# Altium footprint library alarm_pcb_lib.PcbLib: 7 footprints
Each footprint in its own frame and in the unit in brackets; x right, y up, seen from the top. Pads: shape width x height; smd on the part's side, far side on the other; paste and mask are expansions set on the pad; w line width, h text height; cw(c..) or ccw(c..) is an arc to the next point about the centre after c.
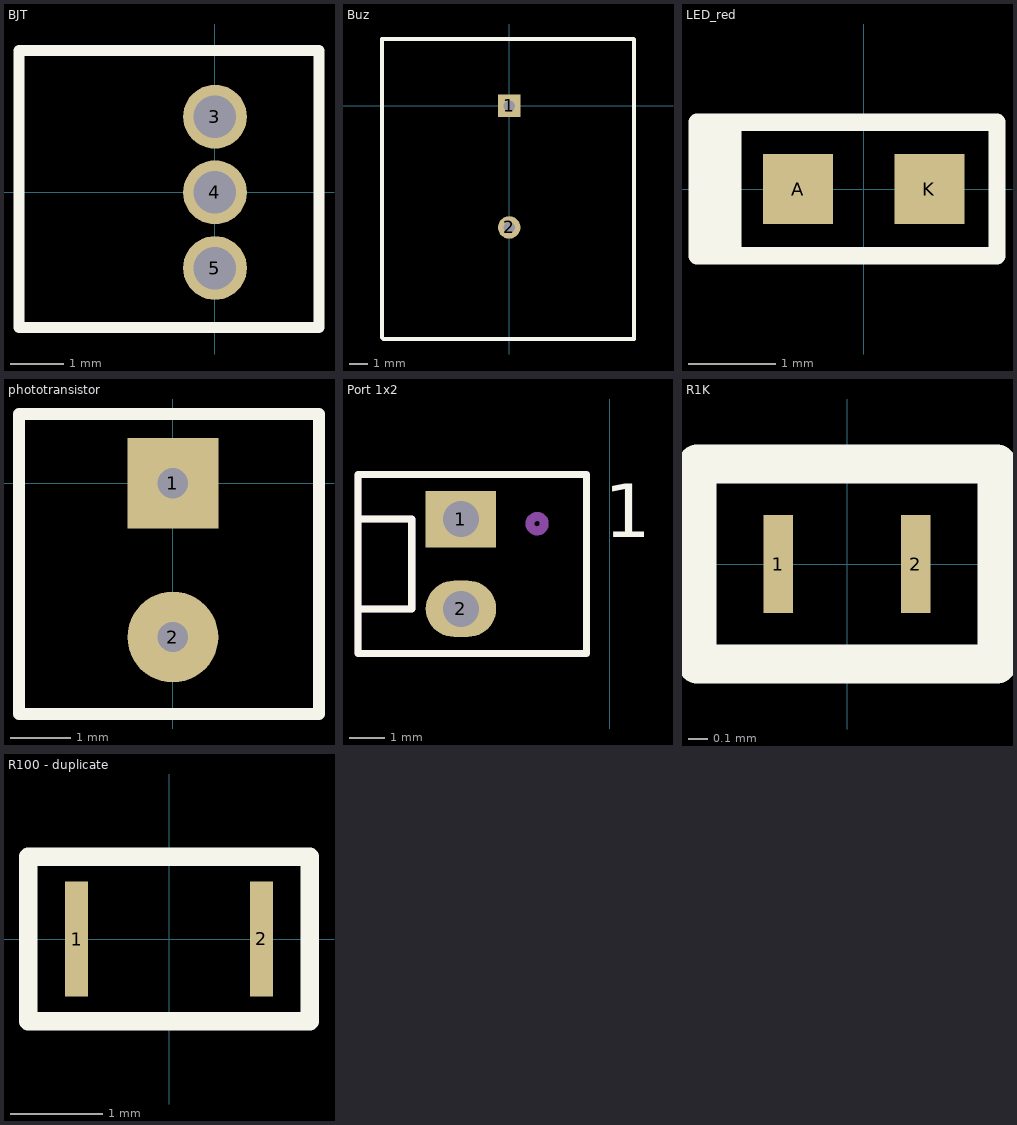
[diagram p0: the footprints below, top view; thin cyan lines are the x and y axes]

## BJT [mm]
pads (3):
  round 1.2 hole 0.8: 3(0,1.422) 4(0,0) 5(0,-1.422)
Top Overlay:
  lines w0.2: -3.683,-2.54 1.956,-2.54 1.956,2.667 -3.429,2.667 -3.683,2.667 -3.683,-2.54
Bottom Solder:
3D body "User Library-BC557 Transistors PNP TO-92 3L (2,54mm).step": height 5.01, standoff -14.74, extent -3.371,-2.38 1.81,2.38

## Buz [mm]
pads (2):
  rect 1.2x1.2 hole 0.6: 1(0,0)
  round 1.2 hole 0.6: 2(0,-6.5)
Top Overlay:
  lines w0.2: -6.807,-12.394 -6.807,3.583 6.655,3.583 6.68,3.557 6.68,-12.47 -6.604,-12.47 -6.731,-12.47
3D body "buzzer.stp": height 8.56, standoff -4.29, extent -6.05,-12.026 5.948,2.724

## LED_red [mm]
pads (2):
  rect 0.8x0.8 smd: A(-0.75,0) K(0.75,0)
Top Overlay:
  rectangle: -1.905,-0.762 -1.397,0.762
  lines w0.2: -1.905,-0.762 -1.905,0.762 1.524,0.762 1.524,-0.762 -1.905,-0.762
3D body "User Library-LED_0603_R.STEP": height 0.6, standoff 0, extent -0.8,-0.4 0.8,0.4

## phototransistor [mm]
pads (2):
  rect 1.5x1.5 hole 0.5: 1(0,0)
  round 1.5 hole 0.5: 2(0,-2.54)
Top Overlay:
  lines w0.2: -2.54,-3.81 2.413,-3.81 2.413,1.143 -2.54,1.143 -2.54,-3.81
3D body "photo_trans.step": height 5.21, standoff -7.35, extent -1.9,-3.17 1.9,0.256

## Port 1x2 [mm]
pads (2):
  rect 2x1.6 hole 1.02: 1(-4.216,-6.147)
  oval 2x1.6 hole 1.02: 2(-4.216,-8.687)
Top Overlay:
  lines w0.2: -7.137,-8.687 -5.613,-8.687 -5.613,-6.147 -7.137,-6.147 ; -7.137,-9.957 -0.66,-9.957 -0.66,-4.877 -7.137,-4.877 -7.137,-9.957
  text "1" at -0.152,-6.655 h1.52
Mechanical 29 (Mech29):
  circle w0.254: c-2.057,-6.274 r0.203
  lines w0.2: -7.137,-8.687 -5.613,-8.687 -5.613,-6.147 -7.137,-6.147 ; -7.137,-9.957 -7.137,-4.877 -0.66,-4.877 -0.66,-9.957 -7.137,-9.957
3D body "022232021.stp": height 10.68, standoff -3.54, extent -7.061,-9.753 -0.711,-4.826

## R1K [mm]
pads (2):
  rect 0.15x0.5 smd: 1(-0.35,0) 2(0.35,0)
Top Overlay:
  lines w0.2: -0.762,-0.508 -0.762,0.508 0.762,0.508 0.762,-0.508 -0.762,-0.508
3D body "R1K_model.step": height 0.34, standoff -0.01, extent -0.5,-0.25 0.5,0.25

## R100 - duplicate [mm]
pads (2):
  rect 0.25x1.25 smd: 1(-1,0) 2(1,0)
Top Overlay:
  lines w0.2: -1.524,-0.889 -1.524,0.889 1.524,0.889 1.524,-0.889 -1.524,-0.889
3D body "R100_model.step": height 0.56, standoff -0.04, extent -1,-0.625 1,0.625